# Altium integrated library Microchip Power Management MOSFET Driver.IntLib: 509 symbols (part 11 of 13)
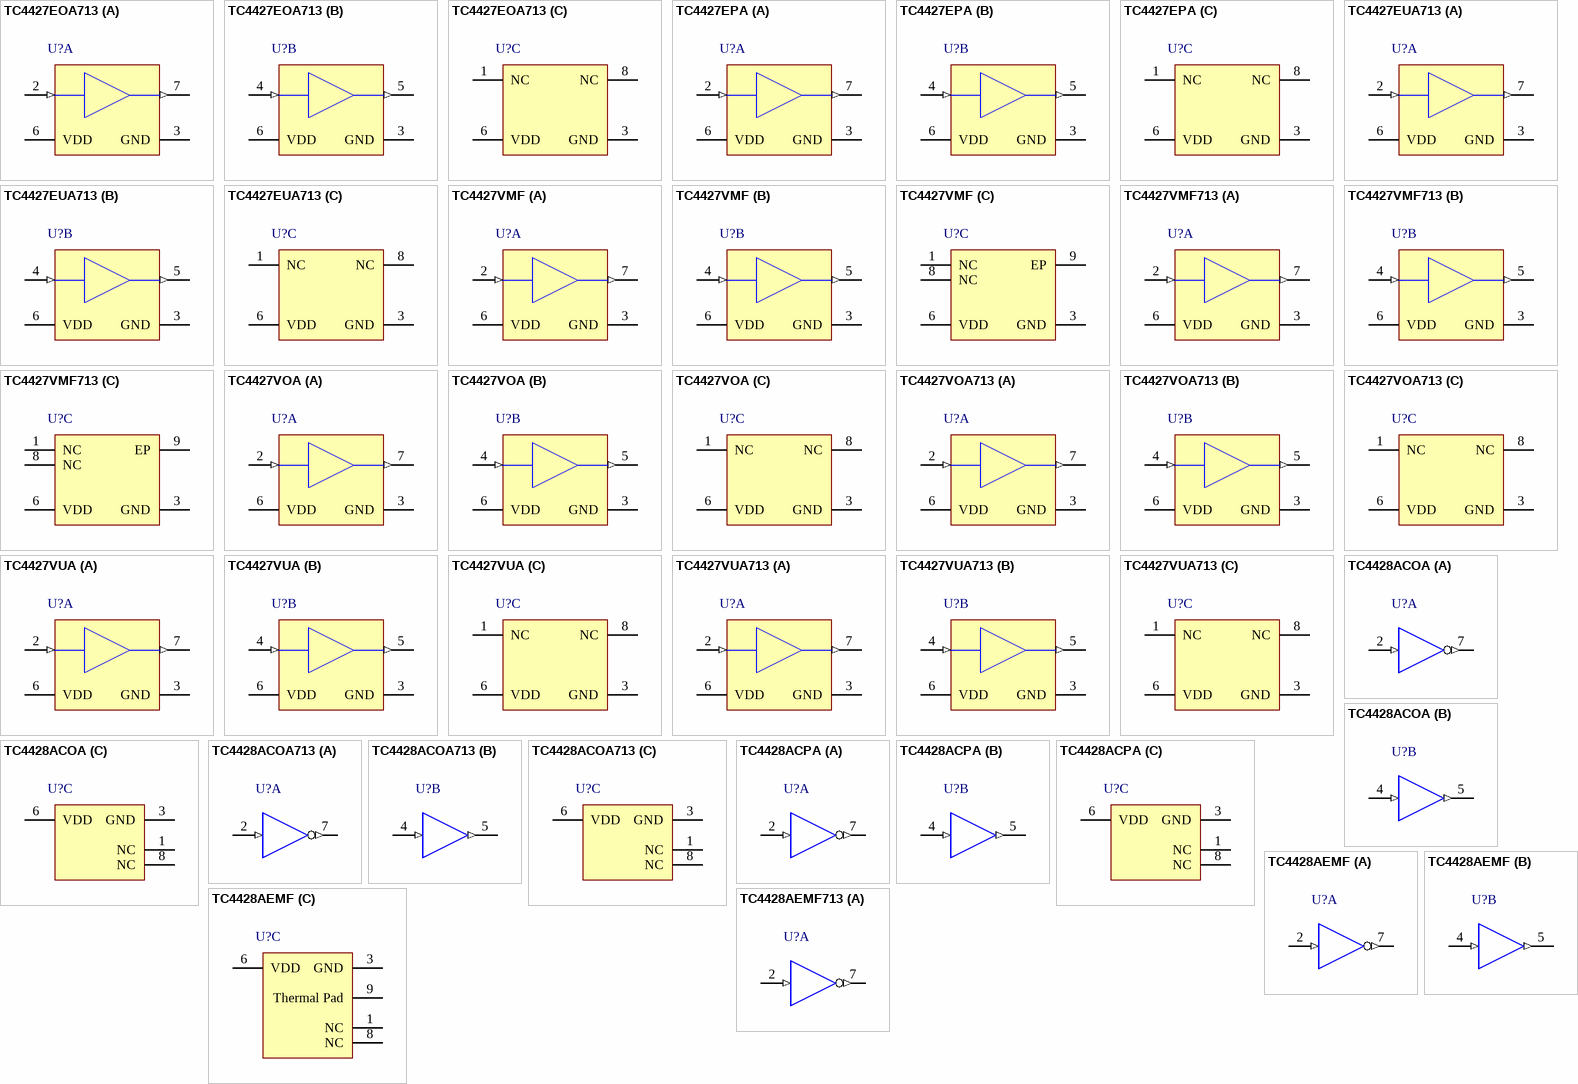
[diagram p36: symbols TC4427EOA713 to TC4428AEMF713]

## TC4427EPA
designator U?
1.5A Dual High-Speed Power MOSFET Driver, Non-Inverting, Industrial Temperature; Manufacturer: Microchip; PartNumber: TC4427EPA; DatasheetVersion: revD, Jan-2006; PackageVersion: revBB, Aug-2009; PackageReference: PDIP300-PA8; PackageDescription: 8-Lead Plastic Dual In-Line (PA) - 300 mil Body [PDIP]; Supplier 1: Digi-Key; Supplier Part Number 1: TC4427EPA-ND; Supplier 2: Farnell; Supplier Part Number 2: 1651944; Supplier 3: Newark; Supplier Part Number 3: 96K4021; Supplier 4: Mouser; Supplier Part Number 4: 579-TC4427EPA; Mounting Technology: Through Hole; Code_JEDEC: MS-001-BA; ComponentLink1Description: Manufacturer URL; ComponentLink1URL: http://www.microchip.com/; ComponentLink2Description: Datasheet; ComponentLink2URL: http://ww1.microchip.com/downloads/en/DeviceDoc/21422D.pdf; ComponentLink3Description: Package Specification; ComponentLink3URL: http://www.microchip.com/stellent/groups/techpub_sg/documents/packagingspec/en012702.pdf
footprint PDIP300-PA8 (DIP, 8-Leads, Row Spacing 7.62mm, Pitch 2.54mm, Body 9.5x6.6mm)
pins on every part: 3 GND (power), 6 VDD (power)
part A pins: 2 INA (in), 7 OUTA (out)
part B pins: 4 INB (in), 5 OUTB (out)
part C pins: 1 NC, 8 NC

## TC4427EUA713
designator U?
1.5A Dual High-Speed Power MOSFET Driver, Non-Inverting, Industrial Temperature, Tape and Reel; Manufacturer: Microchip; PartNumber: TC4427EUA713; DatasheetVersion: revD, Jan-2006; PackageVersion: revBB, Aug-2009; PackageReference: MSOP-UA8; PackageDescription: 8-Lead Plastic Micro Small Outline Package (UA) [MSOP]; Supplier 1: Digi-Key; Supplier Part Number 1: TC4427EUA713-ND; Supplier 2: Mouser; Supplier Part Number 2: 579-TC4427EUA713; Mounting Technology: Surface Mount; Code_JEDEC: MO-187-AA; ComponentLink1Description: Manufacturer URL; ComponentLink1URL: http://www.microchip.com/; ComponentLink2Description: Datasheet; ComponentLink2URL: http://ww1.microchip.com/downloads/en/DeviceDoc/21422D.pdf; ComponentLink3Description: Package Specification; ComponentLink3URL: http://www.microchip.com/stellent/groups/techpub_sg/documents/packagingspec/en012702.pdf
footprint MSOP-UA8_N (TSOP, 8-Leads, Body 3x3mm, Pitch 0.65mm, IPC Medium Density)
footprint MSOP-UA8_L (TSOP, 8-Leads, Body 3x3mm, Pitch 0.65mm, IPC High Density)
footprint MSOP-UA8_M (TSOP, 8-Leads, Body 3x3mm, Pitch 0.65mm, IPC Low Density)
pins on every part: 3 GND (power), 6 VDD (power)
part A pins: 2 INA (in), 7 OUTA (out)
part B pins: 4 INB (in), 5 OUTB (out)
part C pins: 1 NC, 8 NC

## TC4427VMF
designator U?
1.5A Dual High-Speed Power MOSFET Driver, Non-Inverting, Extended Temperature; Manufacturer: Microchip; PartNumber: TC4427VMF; DatasheetVersion: revD, Jan-2006; PackageVersion: revBB, Aug-2009; PackageReference: DFN-MF8; PackageDescription: 8-Lead Plastic Dual Flat, No Lead Package (MF) - 3x3x0.9mm Body [DFN]; Supplier 1: Digi-Key; Supplier Part Number 1: TC4427VMF-ND; Supplier 2: Mouser; Supplier Part Number 2: 579-TC4427VMF; Mounting Technology: Surface Mount; ComponentLink1Description: Manufacturer URL; ComponentLink1URL: http://www.microchip.com/; ComponentLink2Description: Datasheet; ComponentLink2URL: http://ww1.microchip.com/downloads/en/DeviceDoc/21422D.pdf; ComponentLink3Description: Package Specification; ComponentLink3URL: http://www.microchip.com/stellent/groups/techpub_sg/documents/packagingspec/en012702.pdf
footprint DFN-MF8 (SON, 8-Leads, Body 3x3mm, Pitch 0.65mm, Microchip Recommended)
pins on every part: 3 GND (power), 6 VDD (power)
part A pins: 2 INA (in), 7 OUTA (out)
part B pins: 4 INB (in), 5 OUTB (out)
part C pins: 1 NC, 8 NC, 9 EP

## TC4427VMF713
designator U?
1.5A Dual High-Speed Power MOSFET Driver, Non-Inverting, Extended Temperature, Tape and Reel; Manufacturer: Microchip; PartNumber: TC4427VMF713; DatasheetVersion: revD, Jan-2006; PackageVersion: revBB, Aug-2009; PackageReference: DFN-MF8; PackageDescription: 8-Lead Plastic Dual Flat, No Lead Package (MF) - 3x3x0.9mm Body [DFN]; Supplier 1: Digi-Key; Supplier Part Number 1: TC4427VMF713-ND; Supplier 2: Mouser; Supplier Part Number 2: 579-TC4427VMF713; Mounting Technology: Surface Mount; ComponentLink1Description: Manufacturer URL; ComponentLink1URL: http://www.microchip.com/; ComponentLink2Description: Datasheet; ComponentLink2URL: http://ww1.microchip.com/downloads/en/DeviceDoc/21422D.pdf; ComponentLink3Description: Package Specification; ComponentLink3URL: http://www.microchip.com/stellent/groups/techpub_sg/documents/packagingspec/en012702.pdf
footprint DFN-MF8 (SON, 8-Leads, Body 3x3mm, Pitch 0.65mm, Microchip Recommended)
pins on every part: 3 GND (power), 6 VDD (power)
part A pins: 2 INA (in), 7 OUTA (out)
part B pins: 4 INB (in), 5 OUTB (out)
part C pins: 1 NC, 8 NC, 9 EP

## TC4427VOA
designator U?
1.5A Dual High-Speed Power MOSFET Driver, Non-Inverting, Extended Temperature; Manufacturer: Microchip; PartNumber: TC4427VOA; DatasheetVersion: revD, Jan-2006; PackageVersion: revBB, Aug-2009; PackageReference: SOIC-OA8; PackageDescription: 8-Lead Plastic Small Outline (OA) - Narrow, 3.90mm Body [SOIC]; Supplier 1: Digi-Key; Supplier Part Number 1: TC4427VOA-ND; Supplier 2: Mouser; Supplier Part Number 2: 579-TC4427VOA; Mounting Technology: Surface Mount; Code_IPC: SOIC127P600-8; ComponentLink1Description: Manufacturer URL; ComponentLink1URL: http://www.microchip.com/; ComponentLink2Description: Datasheet; ComponentLink2URL: http://ww1.microchip.com/downloads/en/DeviceDoc/21422D.pdf; ComponentLink3Description: Package Specification; ComponentLink3URL: http://www.microchip.com/stellent/groups/techpub_sg/documents/packagingspec/en012702.pdf
footprint SOIC-OA8_N (SOIC, 8-Leads, Body 4.9x3.9mm, Pitch 1.27mm, IPC Medium Density)
footprint SOIC-OA8_L (SOIC, 8-Leads, Body 4.9x3.9mm, Pitch 1.27mm, IPC High Density)
footprint SOIC-OA8_M (SOIC, 8-Leads, Body 4.9x3.9mm, Pitch 1.27mm, IPC Low Density)
pins on every part: 3 GND (power), 6 VDD (power)
part A pins: 2 INA (in), 7 OUTA (out)
part B pins: 4 INB (in), 5 OUTB (out)
part C pins: 1 NC, 8 NC

## TC4427VOA713
designator U?
1.5A Dual High-Speed Power MOSFET Driver, Non-Inverting, Extended Temperature, Tape and Reel; Manufacturer: Microchip; PartNumber: TC4427VOA713; DatasheetVersion: revD, Jan-2006; PackageVersion: revBB, Aug-2009; PackageReference: SOIC-OA8; PackageDescription: 8-Lead Plastic Small Outline (OA) - Narrow, 3.90mm Body [SOIC]; Supplier 1: Digi-Key; Supplier Part Number 1: TC4427VOA713-ND; Supplier 2: Newark; Supplier Part Number 2: 68H9558; Supplier 3: Mouser; Supplier Part Number 3: 579-TC4427VOA713; Mounting Technology: Surface Mount; Code_IPC: SOIC127P600-8; ComponentLink1Description: Manufacturer URL; ComponentLink1URL: http://www.microchip.com/; ComponentLink2Description: Datasheet; ComponentLink2URL: http://ww1.microchip.com/downloads/en/DeviceDoc/21422D.pdf; ComponentLink3Description: Package Specification; ComponentLink3URL: http://www.microchip.com/stellent/groups/techpub_sg/documents/packagingspec/en012702.pdf
footprint SOIC-OA8_N (SOIC, 8-Leads, Body 4.9x3.9mm, Pitch 1.27mm, IPC Medium Density)
footprint SOIC-OA8_L (SOIC, 8-Leads, Body 4.9x3.9mm, Pitch 1.27mm, IPC High Density)
footprint SOIC-OA8_M (SOIC, 8-Leads, Body 4.9x3.9mm, Pitch 1.27mm, IPC Low Density)
pins on every part: 3 GND (power), 6 VDD (power)
part A pins: 2 INA (in), 7 OUTA (out)
part B pins: 4 INB (in), 5 OUTB (out)
part C pins: 1 NC, 8 NC

## TC4427VUA
designator U?
1.5A Dual High-Speed Power MOSFET Driver, Non-Inverting, Extended Temperature; Manufacturer: Microchip; PartNumber: TC4427VUA; DatasheetVersion: revD, Jan-2006; PackageVersion: revBB, Aug-2009; PackageReference: MSOP-UA8; PackageDescription: 8-Lead Plastic Micro Small Outline Package (UA) [MSOP]; Supplier 1: Digi-Key; Supplier Part Number 1: TC4427VUA-ND; Supplier 2: Mouser; Supplier Part Number 2: 579-TC4427VUA; Mounting Technology: Surface Mount; Code_JEDEC: MO-187-AA; ComponentLink1Description: Manufacturer URL; ComponentLink1URL: http://www.microchip.com/; ComponentLink2Description: Datasheet; ComponentLink2URL: http://ww1.microchip.com/downloads/en/DeviceDoc/21422D.pdf; ComponentLink3Description: Package Specification; ComponentLink3URL: http://www.microchip.com/stellent/groups/techpub_sg/documents/packagingspec/en012702.pdf
footprint MSOP-UA8_N (TSOP, 8-Leads, Body 3x3mm, Pitch 0.65mm, IPC Medium Density)
footprint MSOP-UA8_L (TSOP, 8-Leads, Body 3x3mm, Pitch 0.65mm, IPC High Density)
footprint MSOP-UA8_M (TSOP, 8-Leads, Body 3x3mm, Pitch 0.65mm, IPC Low Density)
pins on every part: 3 GND (power), 6 VDD (power)
part A pins: 2 INA (in), 7 OUTA (out)
part B pins: 4 INB (in), 5 OUTB (out)
part C pins: 1 NC, 8 NC

## TC4427VUA713
designator U?
1.5A Dual High-Speed Power MOSFET Driver, Non-Inverting, Extended Temperature, Tape and Reel; Manufacturer: Microchip; PartNumber: TC4427VUA713; DatasheetVersion: revD, Jan-2006; PackageVersion: revBB, Aug-2009; PackageReference: MSOP-UA8; PackageDescription: 8-Lead Plastic Micro Small Outline Package (UA) [MSOP]; Supplier 1: Digi-Key; Supplier Part Number 1: TC4427VUA713-ND; Supplier 2: Mouser; Supplier Part Number 2: 579-TC4427VUA713; Mounting Technology: Surface Mount; Code_JEDEC: MO-187-AA; ComponentLink1Description: Manufacturer URL; ComponentLink1URL: http://www.microchip.com/; ComponentLink2Description: Datasheet; ComponentLink2URL: http://ww1.microchip.com/downloads/en/DeviceDoc/21422D.pdf; ComponentLink3Description: Package Specification; ComponentLink3URL: http://www.microchip.com/stellent/groups/techpub_sg/documents/packagingspec/en012702.pdf
footprint MSOP-UA8_N (TSOP, 8-Leads, Body 3x3mm, Pitch 0.65mm, IPC Medium Density)
footprint MSOP-UA8_L (TSOP, 8-Leads, Body 3x3mm, Pitch 0.65mm, IPC High Density)
footprint MSOP-UA8_M (TSOP, 8-Leads, Body 3x3mm, Pitch 0.65mm, IPC Low Density)
pins on every part: 3 GND (power), 6 VDD (power)
part A pins: 2 INA (in), 7 OUTA (out)
part B pins: 4 INB (in), 5 OUTB (out)
part C pins: 1 NC, 8 NC

## TC4428ACOA
designator U?
1.5A Dual High-Speed Power MOSFET Driver, Complementary, Commercial Temperature; Manufacturer: Microchip; PartNumber: TC4428ACOA; DatasheetVersion: revF, Jan-2006; PackageVersion: revBB, Aug-2009; PackageReference: SOIC-OA8; PackageDescription: 8-Lead Plastic Small Outline (OA) - Narrow, 3.90mm Body [SOIC]; Supplier 1: Digi-Key; Supplier Part Number 1: TC4428ACOA-ND; Supplier 2: Farnell; Supplier Part Number 2: 1332312; Supplier 3: Newark; Supplier Part Number 3: 34M8781; Supplier 4: Mouser; Supplier Part Number 4: 579-TC4428ACOA; Mounting Technology: Surface Mount; Code_IPC: SOIC127P600-8; ComponentLink1Description: Manufacturer URL; ComponentLink1URL: http://www.microchip.com/; ComponentLink2Description: Datasheet; ComponentLink2URL: http://ww1.microchip.com/downloads/en/DeviceDoc/21423F.pdf; ComponentLink3Description: Package Specification; ComponentLink3URL: http://www.microchip.com/stellent/groups/techpub_sg/documents/packagingspec/en012702.pdf
footprint SOIC-OA8_N (SOIC, 8-Leads, Body 4.9x3.9mm, Pitch 1.27mm, IPC Medium Density)
footprint SOIC-OA8_L (SOIC, 8-Leads, Body 4.9x3.9mm, Pitch 1.27mm, IPC High Density)
footprint SOIC-OA8_M (SOIC, 8-Leads, Body 4.9x3.9mm, Pitch 1.27mm, IPC Low Density)
part A pins: 2 INA (in), 7 ~{OUTA} (out)
part B pins: 4 INB (in), 5 OUTB (out)
part C pins: 1 NC, 3 GND (power), 6 VDD (power), 8 NC

## TC4428ACOA713
designator U?
1.5A Dual High-Speed Power MOSFET Driver, Complementary, Commercial Temperature, Tape and Reel; Manufacturer: Microchip; PartNumber: TC4428ACOA713; DatasheetVersion: revD, Jan-2006; PackageVersion: revBB, Aug-2009; PackageReference: SOIC-OA8; PackageDescription: 8-Lead Plastic Small Outline (OA) - Narrow, 3.90mm Body [SOIC]; Supplier 1: Digi-Key; Supplier Part Number 1: TC4428ACOA713-ND; Supplier 2: Mouser; Supplier Part Number 2: 579-TC4428ACOA713; Mounting Technology: Surface Mount; Code_IPC: SOIC127P600-8; ComponentLink1Description: Manufacturer URL; ComponentLink1URL: http://www.microchip.com/; ComponentLink2Description: Datasheet; ComponentLink2URL: http://ww1.microchip.com/downloads/en/DeviceDoc/21422D.pdf; ComponentLink3Description: Package Specification; ComponentLink3URL: http://www.microchip.com/stellent/groups/techpub_sg/documents/packagingspec/en012702.pdf
footprint SOIC-OA8_N (SOIC, 8-Leads, Body 4.9x3.9mm, Pitch 1.27mm, IPC Medium Density)
footprint SOIC-OA8_L (SOIC, 8-Leads, Body 4.9x3.9mm, Pitch 1.27mm, IPC High Density)
footprint SOIC-OA8_M (SOIC, 8-Leads, Body 4.9x3.9mm, Pitch 1.27mm, IPC Low Density)
part A pins: 2 INA (in), 7 ~{OUTA} (out)
part B pins: 4 INB (in), 5 OUTB (out)
part C pins: 1 NC, 3 GND (power), 6 VDD (power), 8 NC

## TC4428ACPA
designator U?
1.5A Dual High-Speed Power MOSFET Driver, Complementary, Commercial Temperature; Manufacturer: Microchip; PartNumber: TC4428ACPA; DatasheetVersion: revF, Jan-2006; PackageVersion: revBB, Aug-2009; PackageReference: PDIP300-PA8; PackageDescription: 8-Lead Plastic Dual In-Line (PA) - 300 mil Body [PDIP]; Supplier 1: Digi-Key; Supplier Part Number 1: TC4428ACPA-ND; Supplier 2: Farnell; Supplier Part Number 2: 1332313; Supplier 3: Newark; Supplier Part Number 3: 34M8782; Supplier 4: Mouser; Supplier Part Number 4: 579-TC4428ACPA; Mounting Technology: Through Hole; Code_JEDEC: MS-001-BA; ComponentLink1Description: Manufacturer URL; ComponentLink1URL: http://www.microchip.com/; ComponentLink2Description: Datasheet; ComponentLink2URL: http://ww1.microchip.com/downloads/en/DeviceDoc/21423F.pdf; ComponentLink3Description: Package Specification; ComponentLink3URL: http://www.microchip.com/stellent/groups/techpub_sg/documents/packagingspec/en012702.pdf
footprint PDIP300-PA8 (DIP, 8-Leads, Row Spacing 7.62mm, Pitch 2.54mm, Body 9.5x6.6mm)
part A pins: 2 INA (in), 7 ~{OUTA} (out)
part B pins: 4 INB (in), 5 OUTB (out)
part C pins: 1 NC, 3 GND (power), 6 VDD (power), 8 NC

## TC4428AEMF
designator U?
1.5A Dual High-Speed Power MOSFET Driver, Complementary, Industrial Temperature; Manufacturer: Microchip; PartNumber: TC4428AEMF; DatasheetVersion: revF, Jan-2006; PackageVersion: revBB, Aug-2009; PackageReference: DFN-MF8; PackageDescription: 8-Lead Plastic Dual Flat, No Lead Package (MF) - 3x3x0.9mm Body [DFN]; Supplier 1: Digi-Key; Supplier Part Number 1: TC4428AEMF-ND; Supplier 2: Mouser; Supplier Part Number 2: 579-TC4428AEMF; Mounting Technology: Surface Mount; ComponentLink1Description: Manufacturer URL; ComponentLink1URL: http://www.microchip.com/; ComponentLink2Description: Datasheet; ComponentLink2URL: http://ww1.microchip.com/downloads/en/DeviceDoc/21423F.pdf; ComponentLink3Description: Package Specification; ComponentLink3URL: http://www.microchip.com/stellent/groups/techpub_sg/documents/packagingspec/en012702.pdf
footprint DFN-MF8 (SON, 8-Leads, Body 3x3mm, Pitch 0.65mm, Microchip Recommended)
part A pins: 2 INA (in), 7 ~{OUTA} (out)
part B pins: 4 INB (in), 5 OUTB (out)
part C pins: 1 NC, 3 GND (power), 6 VDD (power), 8 NC, 9 Thermal Pad

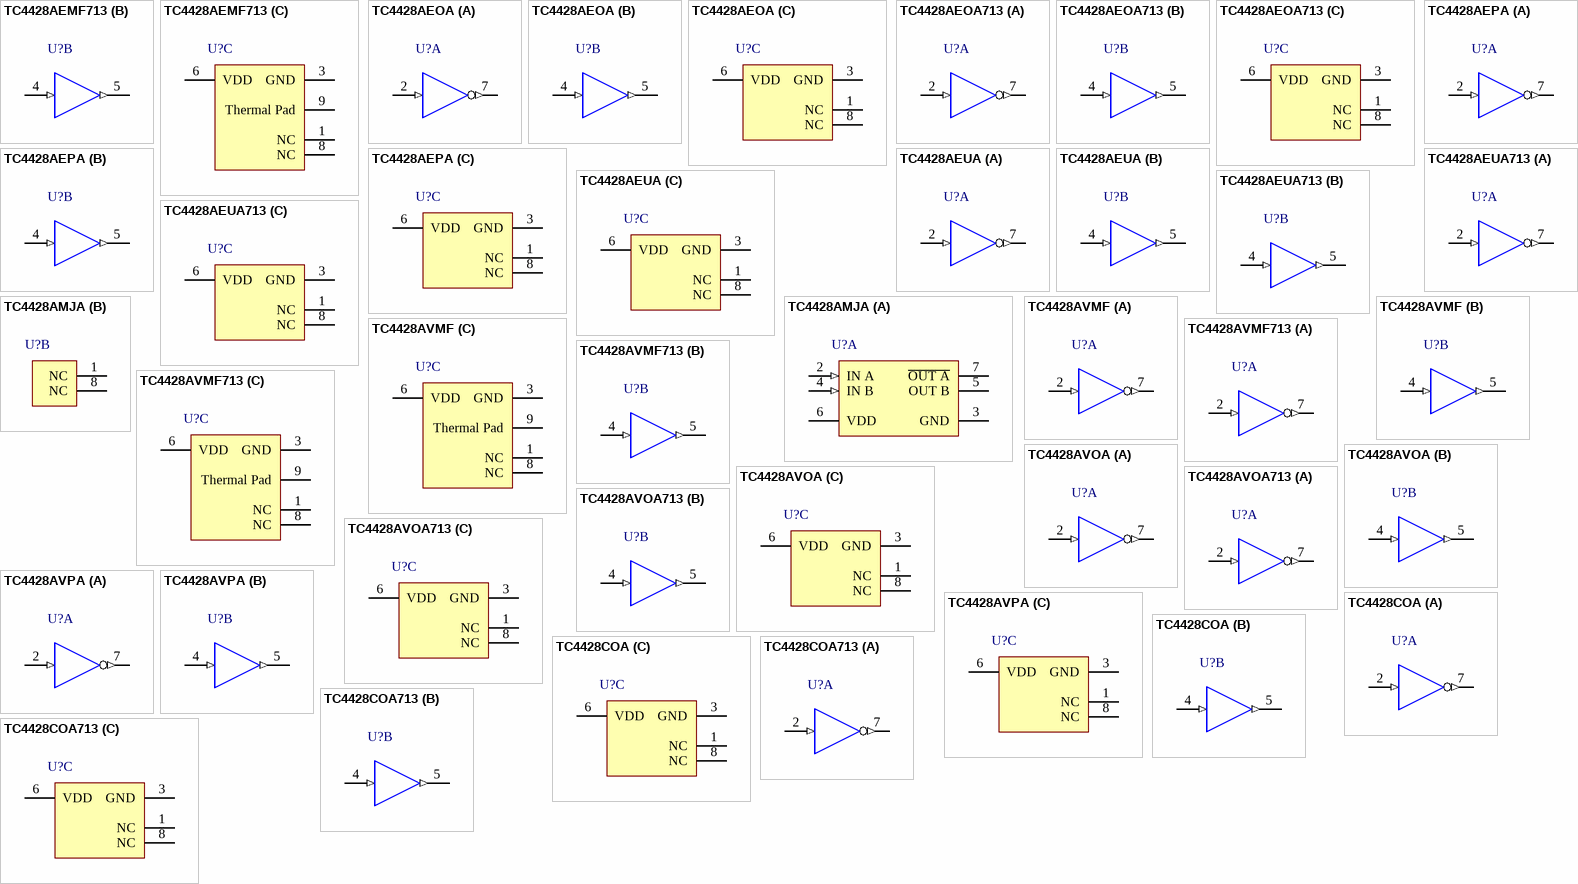
[diagram p21: symbols TC4428AEMF713 to TC4428COA713]

## TC4428AEMF713
designator U?
1.5A Dual High-Speed Power MOSFET Driver, Complementary, Industrial Temperature, Tape and Reel; Manufacturer: Microchip; PartNumber: TC4428AEMF713; DatasheetVersion: revF, Jan-2006; PackageVersion: revBB, Aug-2009; PackageReference: DFN-MF8; PackageDescription: 8-Lead Plastic Dual Flat, No Lead Package (MF) - 3x3x0.9mm Body [DFN]; Supplier 1: Digi-Key; Supplier Part Number 1: TC4428AEMF713-ND; Supplier 2: Mouser; Supplier Part Number 2: 579-TC4428AEMF713; Mounting Technology: Surface Mount; ComponentLink1Description: Manufacturer URL; ComponentLink1URL: http://www.microchip.com/; ComponentLink2Description: Datasheet; ComponentLink2URL: http://ww1.microchip.com/downloads/en/DeviceDoc/21423F.pdf; ComponentLink3Description: Package Specification; ComponentLink3URL: http://www.microchip.com/stellent/groups/techpub_sg/documents/packagingspec/en012702.pdf
footprint DFN-MF8 (SON, 8-Leads, Body 3x3mm, Pitch 0.65mm, Microchip Recommended)
part A pins: 2 INA (in), 7 ~{OUTA} (out)
part B pins: 4 INB (in), 5 OUTB (out)
part C pins: 1 NC, 3 GND (power), 6 VDD (power), 8 NC, 9 Thermal Pad

## TC4428AEOA
designator U?
1.5A Dual High-Speed Power MOSFET Driver, Complementary, Industrial Temperature; Manufacturer: Microchip; PartNumber: TC4428AEOA; DatasheetVersion: revF, Jan-2006; PackageVersion: revBB, Aug-2009; PackageReference: SOIC-OA8; PackageDescription: 8-Lead Plastic Small Outline (OA) - Narrow, 3.90mm Body [SOIC]; Supplier 1: Digi-Key; Supplier Part Number 1: TC4428AEOA-ND; Supplier 2: Newark; Supplier Part Number 2: 92C6118; Supplier 3: Mouser; Supplier Part Number 3: 579-TC4428AEOA; Mounting Technology: Surface Mount; Code_IPC: SOIC127P600-8; ComponentLink1Description: Manufacturer URL; ComponentLink1URL: http://www.microchip.com/; ComponentLink2Description: Datasheet; ComponentLink2URL: http://ww1.microchip.com/downloads/en/DeviceDoc/21423F.pdf; ComponentLink3Description: Package Specification; ComponentLink3URL: http://www.microchip.com/stellent/groups/techpub_sg/documents/packagingspec/en012702.pdf
footprint SOIC-OA8_N (SOIC, 8-Leads, Body 4.9x3.9mm, Pitch 1.27mm, IPC Medium Density)
footprint SOIC-OA8_L (SOIC, 8-Leads, Body 4.9x3.9mm, Pitch 1.27mm, IPC High Density)
footprint SOIC-OA8_M (SOIC, 8-Leads, Body 4.9x3.9mm, Pitch 1.27mm, IPC Low Density)
part A pins: 2 INA (in), 7 ~{OUTA} (out)
part B pins: 4 INB (in), 5 OUTB (out)
part C pins: 1 NC, 3 GND (power), 6 VDD (power), 8 NC

## TC4428AEOA713
designator U?
1.5A Dual High-Speed Power MOSFET Driver, Complementary, Industrial Temperature, Tape and Reel; Manufacturer: Microchip; PartNumber: TC4428AEOA713; DatasheetVersion: revD, Jan-2006; PackageVersion: revBB, Aug-2009; PackageReference: SOIC-OA8; PackageDescription: 8-Lead Plastic Small Outline (OA) - Narrow, 3.90mm Body [SOIC]; Supplier 1: Digi-Key; Supplier Part Number 1: TC4428AEOA713-ND; Supplier 2: Mouser; Supplier Part Number 2: 579-TC4428AEOA713; Mounting Technology: Surface Mount; Code_IPC: SOIC127P600-8; ComponentLink1Description: Manufacturer URL; ComponentLink1URL: http://www.microchip.com/; ComponentLink2Description: Datasheet; ComponentLink2URL: http://ww1.microchip.com/downloads/en/DeviceDoc/21422D.pdf; ComponentLink3Description: Package Specification; ComponentLink3URL: http://www.microchip.com/stellent/groups/techpub_sg/documents/packagingspec/en012702.pdf
footprint SOIC-OA8_N (SOIC, 8-Leads, Body 4.9x3.9mm, Pitch 1.27mm, IPC Medium Density)
footprint SOIC-OA8_L (SOIC, 8-Leads, Body 4.9x3.9mm, Pitch 1.27mm, IPC High Density)
footprint SOIC-OA8_M (SOIC, 8-Leads, Body 4.9x3.9mm, Pitch 1.27mm, IPC Low Density)
part A pins: 2 INA (in), 7 ~{OUTA} (out)
part B pins: 4 INB (in), 5 OUTB (out)
part C pins: 1 NC, 3 GND (power), 6 VDD (power), 8 NC

## TC4428AEPA
designator U?
1.5A Dual High-Speed Power MOSFET Driver, Complementary, Industrial Temperature; Manufacturer: Microchip; PartNumber: TC4428AEPA; DatasheetVersion: revF, Jan-2006; PackageVersion: revBB, Aug-2009; PackageReference: PDIP300-PA8; PackageDescription: 8-Lead Plastic Dual In-Line (PA) - 300 mil Body [PDIP]; Supplier 1: Digi-Key; Supplier Part Number 1: TC4428AEPA-ND; Supplier 2: Farnell; Supplier Part Number 2: 1852207; Supplier 3: Newark; Supplier Part Number 3: 92C6120; Supplier 4: Mouser; Supplier Part Number 4: 579-TC4428AEPA; Mounting Technology: Through Hole; Code_JEDEC: MS-001-BA; ComponentLink1Description: Manufacturer URL; ComponentLink1URL: http://www.microchip.com/; ComponentLink2Description: Datasheet; ComponentLink2URL: http://ww1.microchip.com/downloads/en/DeviceDoc/21423F.pdf; ComponentLink3Description: Package Specification; ComponentLink3URL: http://www.microchip.com/stellent/groups/techpub_sg/documents/packagingspec/en012702.pdf
footprint PDIP300-PA8 (DIP, 8-Leads, Row Spacing 7.62mm, Pitch 2.54mm, Body 9.5x6.6mm)
part A pins: 2 INA (in), 7 ~{OUTA} (out)
part B pins: 4 INB (in), 5 OUTB (out)
part C pins: 1 NC, 3 GND (power), 6 VDD (power), 8 NC

## TC4428AEUA
designator U?
1.5A Dual High-Speed Power MOSFET Driver, Complementary, Industrial Temperature; Manufacturer: Microchip; PartNumber: TC4428AEUA; DatasheetVersion: revF, Jan-2006; PackageVersion: revBB, Aug-2009; PackageReference: MSOP-UA8; PackageDescription: 8-Lead Plastic Micro Small Outline Package (UA) [MSOP]; Supplier 1: Digi-Key; Supplier Part Number 1: TC4428AEUA-ND; Supplier 2: Newark; Supplier Part Number 2: 89H1689; Supplier 3: Mouser; Supplier Part Number 3: 579-TC4428AEUA; Mounting Technology: Surface Mount; Code_JEDEC: MO-187-AA; ComponentLink1Description: Manufacturer URL; ComponentLink1URL: http://www.microchip.com/; ComponentLink2Description: Datasheet; ComponentLink2URL: http://ww1.microchip.com/downloads/en/DeviceDoc/21423F.pdf; ComponentLink3Description: Package Specification; ComponentLink3URL: http://www.microchip.com/stellent/groups/techpub_sg/documents/packagingspec/en012702.pdf
footprint MSOP-UA8_N (TSOP, 8-Leads, Body 3x3mm, Pitch 0.65mm, IPC Medium Density)
footprint MSOP-UA8_L (TSOP, 8-Leads, Body 3x3mm, Pitch 0.65mm, IPC High Density)
footprint MSOP-UA8_M (TSOP, 8-Leads, Body 3x3mm, Pitch 0.65mm, IPC Low Density)
part A pins: 2 INA (in), 7 ~{OUTA} (out)
part B pins: 4 INB (in), 5 OUTB (out)
part C pins: 1 NC, 3 GND (power), 6 VDD (power), 8 NC

## TC4428AEUA713
designator U?
1.5A Dual High-Speed Power MOSFET Driver, Complementary, Industrial Temperature, Tape and Reel; Manufacturer: Microchip; PartNumber: TC4428AEUA713; DatasheetVersion: revF, Jan-2006; PackageVersion: revBB, Aug-2009; PackageReference: MSOP-UA8; PackageDescription: 8-Lead Plastic Micro Small Outline Package (UA) [MSOP]; Supplier 1: Digi-Key; Supplier Part Number 1: TC4428AEUA713-ND; Supplier 2: Mouser; Supplier Part Number 2: 579-TC4428AEUA713; Mounting Technology: Surface Mount; Code_JEDEC: MO-187-AA; ComponentLink1Description: Manufacturer URL; ComponentLink1URL: http://www.microchip.com/; ComponentLink2Description: Datasheet; ComponentLink2URL: http://ww1.microchip.com/downloads/en/DeviceDoc/21423F.pdf; ComponentLink3Description: Package Specification; ComponentLink3URL: http://www.microchip.com/stellent/groups/techpub_sg/documents/packagingspec/en012702.pdf
footprint MSOP-UA8_N (TSOP, 8-Leads, Body 3x3mm, Pitch 0.65mm, IPC Medium Density)
footprint MSOP-UA8_L (TSOP, 8-Leads, Body 3x3mm, Pitch 0.65mm, IPC High Density)
footprint MSOP-UA8_M (TSOP, 8-Leads, Body 3x3mm, Pitch 0.65mm, IPC Low Density)
part A pins: 2 INA (in), 7 ~{OUTA} (out)
part B pins: 4 INB (in), 5 OUTB (out)
part C pins: 1 NC, 3 GND (power), 6 VDD (power), 8 NC

## TC4428AMJA
designator U?
1.5 A Dual High-Speed Power MOSFET Driver, Max Supply Voltage 18 V, 8-pin PDIP (JA8), Tube; Manufacturer: Microchip; PartNumber: TC4428AMJA; DatasheetVersion: Rev. A; PackageVersion: C04-010; PackageReference: PDIP-JA8; PackageDescription: 8-Lead Ceramic Dual In-Line, 9.78 x 6.73 mm Body, 2.54 mm Pitch; Supplier 1: Digi-Key; Supplier Part Number 1: TC4428AMJA-ND; Supplier 2: Mouser; Supplier Part Number 2: 579-TC4428AMJA; Mounting Technology: Through Hole; Code_JEDEC: MS-030; ComponentLink1Description: Manufacturer URL; ComponentLink1URL: http://www.microchip.com; ComponentLink2Description: Datasheet; ComponentLink2URL: http://ww1.microchip.com/downloads/en/DeviceDoc/21939a.pdf; ComponentLink3Description: Package Specification; ComponentLink3URL: http://ww1.microchip.com/downloads/en/DeviceDoc/21934a.pdf; ComponentLink4Description: Product URL; ComponentLink4URL: http://www.microchip.com/TC4428
footprint MCHP-PDIP-JA8 (DIP, 8-Leads, Body 9.78x6.73mm, Pitch 2.54mm)
part A pins: 2 IN A (in) "Input A", 3 GND (power) "Ground", 4 IN B (in) "Input B", 5 OUT B (power) "Output B", 6 VDD (power) "Supply input", 7 ~{OUT A} (power) "Output A"
part B pins: 1 NC "No connection", 8 NC "No connection"

## TC4428AVMF
designator U?
1.5A Dual High-Speed Power MOSFET Driver, Complementary, Extended Temperature; Manufacturer: Microchip; PartNumber: TC4428AVMF; DatasheetVersion: revF, Jan-2006; PackageVersion: revBB, Aug-2009; PackageReference: DFN-MF8; PackageDescription: 8-Lead Plastic Dual Flat, No Lead Package (MF) - 3x3x0.9mm Body [DFN]; Supplier 1: Digi-Key; Supplier Part Number 1: TC4428AVMF-ND; Supplier 2: Mouser; Supplier Part Number 2: 579-TC4428AVMF; Mounting Technology: Surface Mount; ComponentLink1Description: Manufacturer URL; ComponentLink1URL: http://www.microchip.com/; ComponentLink2Description: Datasheet; ComponentLink2URL: http://ww1.microchip.com/downloads/en/DeviceDoc/21423F.pdf; ComponentLink3Description: Package Specification; ComponentLink3URL: http://www.microchip.com/stellent/groups/techpub_sg/documents/packagingspec/en012702.pdf
footprint DFN-MF8 (SON, 8-Leads, Body 3x3mm, Pitch 0.65mm, Microchip Recommended)
part A pins: 2 INA (in), 7 ~{OUTA} (out)
part B pins: 4 INB (in), 5 OUTB (out)
part C pins: 1 NC, 3 GND (power), 6 VDD (power), 8 NC, 9 Thermal Pad

## TC4428AVMF713
designator U?
1.5A Dual High-Speed Power MOSFET Driver, Complementary, Extended Temperature, Tape and Reel; Manufacturer: Microchip; PartNumber: TC4428AVMF713; DatasheetVersion: revF, Jan-2006; PackageVersion: revBB, Aug-2009; PackageReference: DFN-MF8; PackageDescription: 8-Lead Plastic Dual Flat, No Lead Package (MF) - 3x3x0.9mm Body [DFN]; Supplier 1: Digi-Key; Supplier Part Number 1: TC4428AVMF713-ND; Supplier 2: Mouser; Supplier Part Number 2: 579-TC4428AVMF713; Mounting Technology: Surface Mount; ComponentLink1Description: Manufacturer URL; ComponentLink1URL: http://www.microchip.com/; ComponentLink2Description: Datasheet; ComponentLink2URL: http://ww1.microchip.com/downloads/en/DeviceDoc/21423F.pdf; ComponentLink3Description: Package Specification; ComponentLink3URL: http://www.microchip.com/stellent/groups/techpub_sg/documents/packagingspec/en012702.pdf
footprint DFN-MF8 (SON, 8-Leads, Body 3x3mm, Pitch 0.65mm, Microchip Recommended)
part A pins: 2 INA (in), 7 ~{OUTA} (out)
part B pins: 4 INB (in), 5 OUTB (out)
part C pins: 1 NC, 3 GND (power), 6 VDD (power), 8 NC, 9 Thermal Pad

## TC4428AVOA
designator U?
1.5A Dual High-Speed Power MOSFET Driver, Complementary, Extended Temperature; Manufacturer: Microchip; PartNumber: TC4428AVOA; DatasheetVersion: revF, Jan-2006; PackageVersion: revBB, Aug-2009; PackageReference: SOIC-OA8; PackageDescription: 8-Lead Plastic Small Outline (OA) - Narrow, 3.90mm Body [SOIC]; Supplier 1: Digi-Key; Supplier Part Number 1: TC4428AVOA-ND; Supplier 2: Mouser; Supplier Part Number 2: 579-TC4428AVOA; Mounting Technology: Surface Mount; Code_IPC: SOIC127P600-8; ComponentLink1Description: Manufacturer URL; ComponentLink1URL: http://www.microchip.com/; ComponentLink2Description: Datasheet; ComponentLink2URL: http://ww1.microchip.com/downloads/en/DeviceDoc/21423F.pdf; ComponentLink3Description: Package Specification; ComponentLink3URL: http://www.microchip.com/stellent/groups/techpub_sg/documents/packagingspec/en012702.pdf
footprint SOIC-OA8_N (SOIC, 8-Leads, Body 4.9x3.9mm, Pitch 1.27mm, IPC Medium Density)
footprint SOIC-OA8_L (SOIC, 8-Leads, Body 4.9x3.9mm, Pitch 1.27mm, IPC High Density)
footprint SOIC-OA8_M (SOIC, 8-Leads, Body 4.9x3.9mm, Pitch 1.27mm, IPC Low Density)
part A pins: 2 INA (in), 7 ~{OUTA} (out)
part B pins: 4 INB (in), 5 OUTB (out)
part C pins: 1 NC, 3 GND (power), 6 VDD (power), 8 NC

## TC4428AVOA713
designator U?
1.5A Dual High-Speed Power MOSFET Driver, Complementary, Extended Temperature, Tape and Reel; Manufacturer: Microchip; PartNumber: TC4428AVOA713; DatasheetVersion: revF, Jan-2006; PackageVersion: revBB, Aug-2009; PackageReference: SOIC-OA8; PackageDescription: 8-Lead Plastic Small Outline (OA) - Narrow, 3.90mm Body [SOIC]; Supplier 1: Digi-Key; Supplier Part Number 1: TC4428AVOA713-ND; Supplier 2: Mouser; Supplier Part Number 2: 579-TC4428AVOA713; Mounting Technology: Surface Mount; Code_IPC: SOIC127P600-8; ComponentLink1Description: Manufacturer URL; ComponentLink1URL: http://www.microchip.com/; ComponentLink2Description: Datasheet; ComponentLink2URL: http://ww1.microchip.com/downloads/en/DeviceDoc/21423F.pdf; ComponentLink3Description: Package Specification; ComponentLink3URL: http://www.microchip.com/stellent/groups/techpub_sg/documents/packagingspec/en012702.pdf
footprint SOIC-OA8_N (SOIC, 8-Leads, Body 4.9x3.9mm, Pitch 1.27mm, IPC Medium Density)
footprint SOIC-OA8_L (SOIC, 8-Leads, Body 4.9x3.9mm, Pitch 1.27mm, IPC High Density)
footprint SOIC-OA8_M (SOIC, 8-Leads, Body 4.9x3.9mm, Pitch 1.27mm, IPC Low Density)
part A pins: 2 INA (in), 7 ~{OUTA} (out)
part B pins: 4 INB (in), 5 OUTB (out)
part C pins: 1 NC, 3 GND (power), 6 VDD (power), 8 NC

## TC4428AVPA
designator U?
1.5A Dual High-Speed Power MOSFET Driver, Complementary, Extended Temperature; Manufacturer: Microchip; PartNumber: TC4428AVPA; DatasheetVersion: revF, Jan-2006; PackageVersion: revBB, Aug-2009; PackageReference: PDIP300-PA8; PackageDescription: 8-Lead Plastic Dual In-Line (PA) - 300 mil Body [PDIP]; Supplier 1: Digi-Key; Supplier Part Number 1: TC4428AVPA-ND; Supplier 2: Mouser; Supplier Part Number 2: 579-TC4428AVPA; Mounting Technology: Through Hole; Code_JEDEC: MS-001-BA; ComponentLink1Description: Manufacturer URL; ComponentLink1URL: http://www.microchip.com/; ComponentLink2Description: Datasheet; ComponentLink2URL: http://ww1.microchip.com/downloads/en/DeviceDoc/21423F.pdf; ComponentLink3Description: Package Specification; ComponentLink3URL: http://www.microchip.com/stellent/groups/techpub_sg/documents/packagingspec/en012702.pdf
footprint PDIP300-PA8 (DIP, 8-Leads, Row Spacing 7.62mm, Pitch 2.54mm, Body 9.5x6.6mm)
part A pins: 2 INA (in), 7 ~{OUTA} (out)
part B pins: 4 INB (in), 5 OUTB (out)
part C pins: 1 NC, 3 GND (power), 6 VDD (power), 8 NC

## TC4428COA
designator U?
1.5A Dual High-Speed Power MOSFET Driver, Complementary, Commercial Temperature; Manufacturer: Microchip; PartNumber: TC4428COA; DatasheetVersion: revD, Jan-2006; PackageVersion: revBB, Aug-2009; PackageReference: SOIC-OA8; PackageDescription: 8-Lead Plastic Small Outline (OA) - Narrow, 3.90mm Body [SOIC]; Supplier 1: Digi-Key; Supplier Part Number 1: TC4428COA-ND; Supplier 2: Farnell; Supplier Part Number 2: 1467706; Supplier 3: Newark; Supplier Part Number 3: 69K7653; Supplier 4: Mouser; Supplier Part Number 4: 579-TC4428COA; Mounting Technology: Surface Mount; Code_IPC: SOIC127P600-8; ComponentLink1Description: Manufacturer URL; ComponentLink1URL: http://www.microchip.com/; ComponentLink2Description: Datasheet; ComponentLink2URL: http://ww1.microchip.com/downloads/en/DeviceDoc/21422D.pdf; ComponentLink3Description: Package Specification; ComponentLink3URL: http://www.microchip.com/stellent/groups/techpub_sg/documents/packagingspec/en012702.pdf
footprint SOIC-OA8_N (SOIC, 8-Leads, Body 4.9x3.9mm, Pitch 1.27mm, IPC Medium Density)
footprint SOIC-OA8_L (SOIC, 8-Leads, Body 4.9x3.9mm, Pitch 1.27mm, IPC High Density)
footprint SOIC-OA8_M (SOIC, 8-Leads, Body 4.9x3.9mm, Pitch 1.27mm, IPC Low Density)
part A pins: 2 INA (in), 7 ~{OUTA} (out)
part B pins: 4 INB (in), 5 OUTB (out)
part C pins: 1 NC, 3 GND (power), 6 VDD (power), 8 NC

## TC4428COA713
designator U?
1.5A Dual High-Speed Power MOSFET Driver, Complementary, Commercial Temperature, Tape and Reel; Manufacturer: Microchip; PartNumber: TC4428COA713; DatasheetVersion: revD, Jan-2006; PackageVersion: revBB, Aug-2009; PackageReference: SOIC-OA8; PackageDescription: 8-Lead Plastic Small Outline (OA) - Narrow, 3.90mm Body [SOIC]; Supplier 1: Digi-Key; Supplier Part Number 1: TC4428COA713TR-ND; Supplier 2: Mouser; Supplier Part Number 2: 579-TC4428COA713; Mounting Technology: Surface Mount; Code_IPC: SOIC127P600-8; ComponentLink1Description: Manufacturer URL; ComponentLink1URL: http://www.microchip.com/; ComponentLink2Description: Datasheet; ComponentLink2URL: http://ww1.microchip.com/downloads/en/DeviceDoc/21422D.pdf; ComponentLink3Description: Package Specification; ComponentLink3URL: http://www.microchip.com/stellent/groups/techpub_sg/documents/packagingspec/en012702.pdf
footprint SOIC-OA8_N (SOIC, 8-Leads, Body 4.9x3.9mm, Pitch 1.27mm, IPC Medium Density)
footprint SOIC-OA8_L (SOIC, 8-Leads, Body 4.9x3.9mm, Pitch 1.27mm, IPC High Density)
footprint SOIC-OA8_M (SOIC, 8-Leads, Body 4.9x3.9mm, Pitch 1.27mm, IPC Low Density)
part A pins: 2 INA (in), 7 ~{OUTA} (out)
part B pins: 4 INB (in), 5 OUTB (out)
part C pins: 1 NC, 3 GND (power), 6 VDD (power), 8 NC

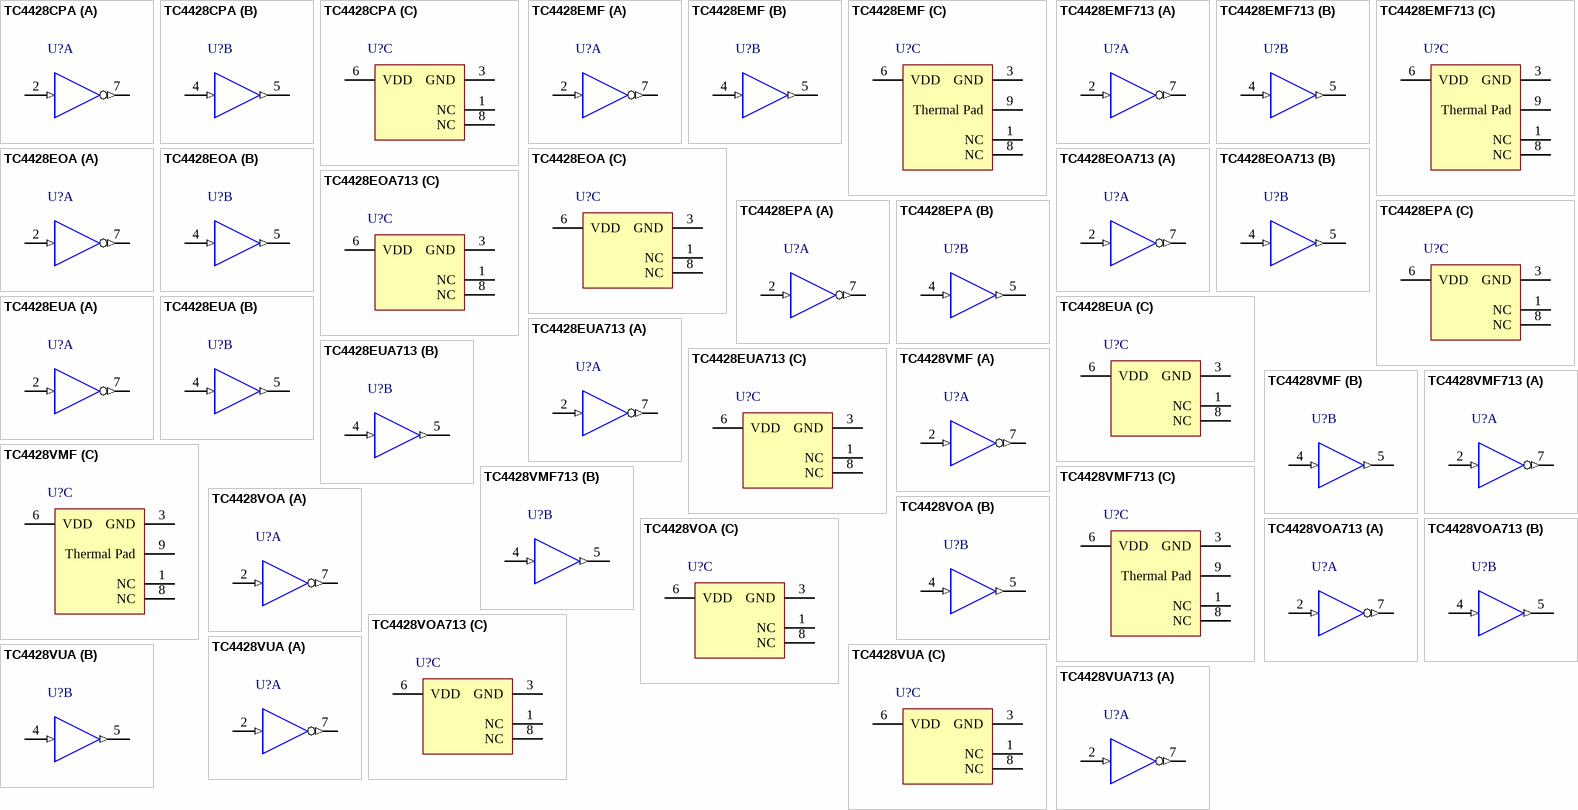
[diagram p22: symbols TC4428CPA to TC4428VUA713]

## TC4428CPA
designator U?
1.5A Dual High-Speed Power MOSFET Driver, Complementary, Commercial Temperature; Manufacturer: Microchip; PartNumber: TC4428CPA; DatasheetVersion: revD, Jan-2006; PackageVersion: revBB, Aug-2009; PackageReference: PDIP300-PA8; PackageDescription: 8-Lead Plastic Dual In-Line (PA) - 300 mil Body [PDIP]; Supplier 1: Digi-Key; Supplier Part Number 1: TC4428CPA-ND; Supplier 2: Farnell; Supplier Part Number 2: 9762655; Supplier 3: Newark; Supplier Part Number 3: 73K1380; Supplier 4: Mouser; Supplier Part Number 4: 579-TC4428CPA; Mounting Technology: Through Hole; Code_JEDEC: MS-001-BA; ComponentLink1Description: Manufacturer URL; ComponentLink1URL: http://www.microchip.com/; ComponentLink2Description: Datasheet; ComponentLink2URL: http://ww1.microchip.com/downloads/en/DeviceDoc/21422D.pdf; ComponentLink3Description: Package Specification; ComponentLink3URL: http://www.microchip.com/stellent/groups/techpub_sg/documents/packagingspec/en012702.pdf
footprint PDIP300-PA8 (DIP, 8-Leads, Row Spacing 7.62mm, Pitch 2.54mm, Body 9.5x6.6mm)
part A pins: 2 INA (in), 7 ~{OUTA} (out)
part B pins: 4 INB (in), 5 OUTB (out)
part C pins: 1 NC, 3 GND (power), 6 VDD (power), 8 NC

## TC4428EMF
designator U?
1.5A Dual High-Speed Power MOSFET Driver, Complementary, Industrial Temperature; Manufacturer: Microchip; PartNumber: TC4428EMF; DatasheetVersion: revD, Jan-2006; PackageVersion: revBB, Aug-2009; PackageReference: DFN-MF8; PackageDescription: 8-Lead Plastic Dual Flat, No Lead Package (MF) - 3x3x0.9mm Body [DFN]; Supplier 1: Digi-Key; Supplier Part Number 1: TC4428EMF-ND; Supplier 2: Mouser; Supplier Part Number 2: 579-TC4428EMF; Mounting Technology: Surface Mount; ComponentLink1Description: Manufacturer URL; ComponentLink1URL: http://www.microchip.com/; ComponentLink2Description: Datasheet; ComponentLink2URL: http://ww1.microchip.com/downloads/en/DeviceDoc/21422D.pdf; ComponentLink3Description: Package Specification; ComponentLink3URL: http://www.microchip.com/stellent/groups/techpub_sg/documents/packagingspec/en012702.pdf
footprint DFN-MF8 (SON, 8-Leads, Body 3x3mm, Pitch 0.65mm, Microchip Recommended)
part A pins: 2 INA (in), 7 ~{OUTA} (out)
part B pins: 4 INB (in), 5 OUTB (out)
part C pins: 1 NC, 3 GND (power), 6 VDD (power), 8 NC, 9 Thermal Pad

## TC4428EMF713
designator U?
1.5A Dual High-Speed Power MOSFET Driver, Complementary, Industrial Temperature, Tape and Reel; Manufacturer: Microchip; PartNumber: TC4428EMF713; DatasheetVersion: revD, Jan-2006; PackageVersion: revBB, Aug-2009; PackageReference: DFN-MF8; PackageDescription: 8-Lead Plastic Dual Flat, No Lead Package (MF) - 3x3x0.9mm Body [DFN]; Supplier 1: Digi-Key; Supplier Part Number 1: TC4428EMF713-ND; Supplier 2: Mouser; Supplier Part Number 2: 579-TC4428EMF713; Mounting Technology: Surface Mount; ComponentLink1Description: Manufacturer URL; ComponentLink1URL: http://www.microchip.com/; ComponentLink2Description: Datasheet; ComponentLink2URL: http://ww1.microchip.com/downloads/en/DeviceDoc/21422D.pdf; ComponentLink3Description: Package Specification; ComponentLink3URL: http://www.microchip.com/stellent/groups/techpub_sg/documents/packagingspec/en012702.pdf
footprint DFN-MF8 (SON, 8-Leads, Body 3x3mm, Pitch 0.65mm, Microchip Recommended)
part A pins: 2 INA (in), 7 ~{OUTA} (out)
part B pins: 4 INB (in), 5 OUTB (out)
part C pins: 1 NC, 3 GND (power), 6 VDD (power), 8 NC, 9 Thermal Pad

## TC4428EOA
designator U?
1.5A Dual High-Speed Power MOSFET Driver, Complementary, Industrial Temperature; Manufacturer: Microchip; PartNumber: TC4428EOA; DatasheetVersion: revD, Jan-2006; PackageVersion: revBB, Aug-2009; PackageReference: SOIC-OA8; PackageDescription: 8-Lead Plastic Small Outline (OA) - Narrow, 3.90mm Body [SOIC]; Supplier 1: Digi-Key; Supplier Part Number 1: TC4428EOA-ND; Supplier 2: Farnell; Supplier Part Number 2: 1196805; Supplier 3: Newark; Supplier Part Number 3: 75K1578; Supplier 4: Mouser; Supplier Part Number 4: 579-TC4428EOA; Mounting Technology: Surface Mount; Code_IPC: SOIC127P600-8; ComponentLink1Description: Manufacturer URL; ComponentLink1URL: http://www.microchip.com/; ComponentLink2Description: Datasheet; ComponentLink2URL: http://ww1.microchip.com/downloads/en/DeviceDoc/21422D.pdf; ComponentLink3Description: Package Specification; ComponentLink3URL: http://www.microchip.com/stellent/groups/techpub_sg/documents/packagingspec/en012702.pdf
footprint SOIC-OA8_N (SOIC, 8-Leads, Body 4.9x3.9mm, Pitch 1.27mm, IPC Medium Density)
footprint SOIC-OA8_L (SOIC, 8-Leads, Body 4.9x3.9mm, Pitch 1.27mm, IPC High Density)
footprint SOIC-OA8_M (SOIC, 8-Leads, Body 4.9x3.9mm, Pitch 1.27mm, IPC Low Density)
part A pins: 2 INA (in), 7 ~{OUTA} (out)
part B pins: 4 INB (in), 5 OUTB (out)
part C pins: 1 NC, 3 GND (power), 6 VDD (power), 8 NC

## TC4428EOA713
designator U?
1.5A Dual High-Speed Power MOSFET Driver, Complementary, Industrial Temperature, Tape and Reel; Manufacturer: Microchip; PartNumber: TC4428EOA713; DatasheetVersion: revD, Jan-2006; PackageVersion: revBB, Aug-2009; PackageReference: SOIC-OA8; PackageDescription: 8-Lead Plastic Small Outline (OA) - Narrow, 3.90mm Body [SOIC]; Supplier 1: Digi-Key; Supplier Part Number 1: TC4428EOA713-ND; Supplier 2: Mouser; Supplier Part Number 2: 579-TC4428EOA713; Mounting Technology: Surface Mount; Code_IPC: SOIC127P600-8; ComponentLink1Description: Manufacturer URL; ComponentLink1URL: http://www.microchip.com/; ComponentLink2Description: Datasheet; ComponentLink2URL: http://ww1.microchip.com/downloads/en/DeviceDoc/21422D.pdf; ComponentLink3Description: Package Specification; ComponentLink3URL: http://www.microchip.com/stellent/groups/techpub_sg/documents/packagingspec/en012702.pdf
footprint SOIC-OA8_N (SOIC, 8-Leads, Body 4.9x3.9mm, Pitch 1.27mm, IPC Medium Density)
footprint SOIC-OA8_L (SOIC, 8-Leads, Body 4.9x3.9mm, Pitch 1.27mm, IPC High Density)
footprint SOIC-OA8_M (SOIC, 8-Leads, Body 4.9x3.9mm, Pitch 1.27mm, IPC Low Density)
part A pins: 2 INA (in), 7 ~{OUTA} (out)
part B pins: 4 INB (in), 5 OUTB (out)
part C pins: 1 NC, 3 GND (power), 6 VDD (power), 8 NC

## TC4428EPA
designator U?
1.5A Dual High-Speed Power MOSFET Driver, Complementary, Industrial Temperature; Manufacturer: Microchip; PartNumber: TC4428EPA; DatasheetVersion: revD, Jan-2006; PackageVersion: revBB, Aug-2009; PackageReference: PDIP300-PA8; PackageDescription: 8-Lead Plastic Dual In-Line (PA) - 300 mil Body [PDIP]; Supplier 1: Digi-Key; Supplier Part Number 1: TC4428EPA-ND; Supplier 2: Newark; Supplier Part Number 2: 92C6124; Supplier 3: Mouser; Supplier Part Number 3: 579-TC4428EPA; Mounting Technology: Through Hole; Code_JEDEC: MS-001-BA; ComponentLink1Description: Manufacturer URL; ComponentLink1URL: http://www.microchip.com/; ComponentLink2Description: Datasheet; ComponentLink2URL: http://ww1.microchip.com/downloads/en/DeviceDoc/21422D.pdf; ComponentLink3Description: Package Specification; ComponentLink3URL: http://www.microchip.com/stellent/groups/techpub_sg/documents/packagingspec/en012702.pdf
footprint PDIP300-PA8 (DIP, 8-Leads, Row Spacing 7.62mm, Pitch 2.54mm, Body 9.5x6.6mm)
part A pins: 2 INA (in), 7 ~{OUTA} (out)
part B pins: 4 INB (in), 5 OUTB (out)
part C pins: 1 NC, 3 GND (power), 6 VDD (power), 8 NC

## TC4428EUA
designator U?
1.5A Dual High-Speed Power MOSFET Driver, Complementary, Industrial Temperature; Manufacturer: Microchip; PartNumber: TC4428EUA; DatasheetVersion: revD, Jan-2006; PackageVersion: revBB, Aug-2009; PackageReference: MSOP-UA8; PackageDescription: 8-Lead Plastic Micro Small Outline Package (UA) [MSOP]; Supplier 1: Digi-Key; Supplier Part Number 1: TC4428EUA-ND; Supplier 2: Mouser; Supplier Part Number 2: 579-TC4428EUA; Mounting Technology: Surface Mount; Code_JEDEC: MO-187-AA; ComponentLink1Description: Manufacturer URL; ComponentLink1URL: http://www.microchip.com/; ComponentLink2Description: Datasheet; ComponentLink2URL: http://ww1.microchip.com/downloads/en/DeviceDoc/21422D.pdf; ComponentLink3Description: Package Specification; ComponentLink3URL: http://www.microchip.com/stellent/groups/techpub_sg/documents/packagingspec/en012702.pdf
footprint MSOP-UA8_N (TSOP, 8-Leads, Body 3x3mm, Pitch 0.65mm, IPC Medium Density)
footprint MSOP-UA8_L (TSOP, 8-Leads, Body 3x3mm, Pitch 0.65mm, IPC High Density)
footprint MSOP-UA8_M (TSOP, 8-Leads, Body 3x3mm, Pitch 0.65mm, IPC Low Density)
part A pins: 2 INA (in), 7 ~{OUTA} (out)
part B pins: 4 INB (in), 5 OUTB (out)
part C pins: 1 NC, 3 GND (power), 6 VDD (power), 8 NC

## TC4428EUA713
designator U?
1.5A Dual High-Speed Power MOSFET Driver, Complementary, Industrial Temperature, Tape and Reel; Manufacturer: Microchip; PartNumber: TC4428EUA713; DatasheetVersion: revD, Jan-2006; PackageVersion: revBB, Aug-2009; PackageReference: MSOP-UA8; PackageDescription: 8-Lead Plastic Micro Small Outline Package (UA) [MSOP]; Supplier 1: Digi-Key; Supplier Part Number 1: TC4428EUA713-ND; Supplier 2: Mouser; Supplier Part Number 2: 579-TC4428EUA713; Mounting Technology: Surface Mount; Code_JEDEC: MO-187-AA; ComponentLink1Description: Manufacturer URL; ComponentLink1URL: http://www.microchip.com/; ComponentLink2Description: Datasheet; ComponentLink2URL: http://ww1.microchip.com/downloads/en/DeviceDoc/21422D.pdf; ComponentLink3Description: Package Specification; ComponentLink3URL: http://www.microchip.com/stellent/groups/techpub_sg/documents/packagingspec/en012702.pdf
footprint MSOP-UA8_N (TSOP, 8-Leads, Body 3x3mm, Pitch 0.65mm, IPC Medium Density)
footprint MSOP-UA8_L (TSOP, 8-Leads, Body 3x3mm, Pitch 0.65mm, IPC High Density)
footprint MSOP-UA8_M (TSOP, 8-Leads, Body 3x3mm, Pitch 0.65mm, IPC Low Density)
part A pins: 2 INA (in), 7 ~{OUTA} (out)
part B pins: 4 INB (in), 5 OUTB (out)
part C pins: 1 NC, 3 GND (power), 6 VDD (power), 8 NC

## TC4428VMF
designator U?
1.5A Dual High-Speed Power MOSFET Driver, Complementary, Extended Temperature; Manufacturer: Microchip; PartNumber: TC4428VMF; DatasheetVersion: revD, Jan-2006; PackageVersion: revBB, Aug-2009; PackageReference: DFN-MF8; PackageDescription: 8-Lead Plastic Dual Flat, No Lead Package (MF) - 3x3x0.9mm Body [DFN]; Supplier 1: Digi-Key; Supplier Part Number 1: TC4428VMF-ND; Supplier 2: Mouser; Supplier Part Number 2: 579-TC4428VMF; Mounting Technology: Surface Mount; ComponentLink1Description: Manufacturer URL; ComponentLink1URL: http://www.microchip.com/; ComponentLink2Description: Datasheet; ComponentLink2URL: http://ww1.microchip.com/downloads/en/DeviceDoc/21422D.pdf; ComponentLink3Description: Package Specification; ComponentLink3URL: http://www.microchip.com/stellent/groups/techpub_sg/documents/packagingspec/en012702.pdf
footprint DFN-MF8 (SON, 8-Leads, Body 3x3mm, Pitch 0.65mm, Microchip Recommended)
part A pins: 2 INA (in), 7 ~{OUTA} (out)
part B pins: 4 INB (in), 5 OUTB (out)
part C pins: 1 NC, 3 GND (power), 6 VDD (power), 8 NC, 9 Thermal Pad

## TC4428VMF713
designator U?
1.5A Dual High-Speed Power MOSFET Driver, Complementary, Extended Temperature, Tape and Reel; Manufacturer: Microchip; PartNumber: TC4428VMF713; DatasheetVersion: revD, Jan-2006; PackageVersion: revBB, Aug-2009; PackageReference: DFN-MF8; PackageDescription: 8-Lead Plastic Dual Flat, No Lead Package (MF) - 3x3x0.9mm Body [DFN]; Supplier 1: Digi-Key; Supplier Part Number 1: TC4428VMF713-ND; Supplier 2: Mouser; Supplier Part Number 2: 579-TC4428VMF713; Mounting Technology: Surface Mount; ComponentLink1Description: Manufacturer URL; ComponentLink1URL: http://www.microchip.com/; ComponentLink2Description: Datasheet; ComponentLink2URL: http://ww1.microchip.com/downloads/en/DeviceDoc/21422D.pdf; ComponentLink3Description: Package Specification; ComponentLink3URL: http://www.microchip.com/stellent/groups/techpub_sg/documents/packagingspec/en012702.pdf
footprint DFN-MF8 (SON, 8-Leads, Body 3x3mm, Pitch 0.65mm, Microchip Recommended)
part A pins: 2 INA (in), 7 ~{OUTA} (out)
part B pins: 4 INB (in), 5 OUTB (out)
part C pins: 1 NC, 3 GND (power), 6 VDD (power), 8 NC, 9 Thermal Pad

## TC4428VOA
designator U?
1.5A Dual High-Speed Power MOSFET Driver, Complementary, Extended Temperature; Manufacturer: Microchip; PartNumber: TC4428VOA; DatasheetVersion: revD, Jan-2006; PackageVersion: revBB, Aug-2009; PackageReference: SOIC-OA8; PackageDescription: 8-Lead Plastic Small Outline (OA) - Narrow, 3.90mm Body [SOIC]; Supplier 1: Digi-Key; Supplier Part Number 1: TC4428VOA-ND; Supplier 2: Mouser; Supplier Part Number 2: 579-TC4428VOA; Mounting Technology: Surface Mount; Code_IPC: SOIC127P600-8; ComponentLink1Description: Manufacturer URL; ComponentLink1URL: http://www.microchip.com/; ComponentLink2Description: Datasheet; ComponentLink2URL: http://ww1.microchip.com/downloads/en/DeviceDoc/21422D.pdf; ComponentLink3Description: Package Specification; ComponentLink3URL: http://www.microchip.com/stellent/groups/techpub_sg/documents/packagingspec/en012702.pdf
footprint SOIC-OA8_N (SOIC, 8-Leads, Body 4.9x3.9mm, Pitch 1.27mm, IPC Medium Density)
footprint SOIC-OA8_L (SOIC, 8-Leads, Body 4.9x3.9mm, Pitch 1.27mm, IPC High Density)
footprint SOIC-OA8_M (SOIC, 8-Leads, Body 4.9x3.9mm, Pitch 1.27mm, IPC Low Density)
part A pins: 2 INA (in), 7 ~{OUTA} (out)
part B pins: 4 INB (in), 5 OUTB (out)
part C pins: 1 NC, 3 GND (power), 6 VDD (power), 8 NC

## TC4428VOA713
designator U?
1.5A Dual High-Speed Power MOSFET Driver, Complementary, Extended Temperature, Tape and Reel; Manufacturer: Microchip; PartNumber: TC4428VOA713; DatasheetVersion: revD, Jan-2006; PackageVersion: revBB, Aug-2009; PackageReference: SOIC-OA8; PackageDescription: 8-Lead Plastic Small Outline (OA) - Narrow, 3.90mm Body [SOIC]; Supplier 1: Digi-Key; Supplier Part Number 1: TC4428VOA713-ND; Supplier 2: Mouser; Supplier Part Number 2: 579-TC4428VOA713; Mounting Technology: Surface Mount; Code_IPC: SOIC127P600-8; ComponentLink1Description: Manufacturer URL; ComponentLink1URL: http://www.microchip.com/; ComponentLink2Description: Datasheet; ComponentLink2URL: http://ww1.microchip.com/downloads/en/DeviceDoc/21422D.pdf; ComponentLink3Description: Package Specification; ComponentLink3URL: http://www.microchip.com/stellent/groups/techpub_sg/documents/packagingspec/en012702.pdf
footprint SOIC-OA8_N (SOIC, 8-Leads, Body 4.9x3.9mm, Pitch 1.27mm, IPC Medium Density)
footprint SOIC-OA8_L (SOIC, 8-Leads, Body 4.9x3.9mm, Pitch 1.27mm, IPC High Density)
footprint SOIC-OA8_M (SOIC, 8-Leads, Body 4.9x3.9mm, Pitch 1.27mm, IPC Low Density)
part A pins: 2 INA (in), 7 ~{OUTA} (out)
part B pins: 4 INB (in), 5 OUTB (out)
part C pins: 1 NC, 3 GND (power), 6 VDD (power), 8 NC

## TC4428VUA
designator U?
1.5A Dual High-Speed Power MOSFET Driver, Complementary, Extended Temperature; Manufacturer: Microchip; PartNumber: TC4428VUA; DatasheetVersion: revD, Jan-2006; PackageVersion: revBB, Aug-2009; PackageReference: MSOP-UA8; PackageDescription: 8-Lead Plastic Micro Small Outline Package (UA) [MSOP]; Supplier 1: Digi-Key; Supplier Part Number 1: TC4428VUA-ND; Supplier 2: Mouser; Supplier Part Number 2: 579-TC4428VUA; Mounting Technology: Surface Mount; Code_JEDEC: MO-187-AA; ComponentLink1Description: Manufacturer URL; ComponentLink1URL: http://www.microchip.com/; ComponentLink2Description: Datasheet; ComponentLink2URL: http://ww1.microchip.com/downloads/en/DeviceDoc/21422D.pdf; ComponentLink3Description: Package Specification; ComponentLink3URL: http://www.microchip.com/stellent/groups/techpub_sg/documents/packagingspec/en012702.pdf
footprint MSOP-UA8_N (TSOP, 8-Leads, Body 3x3mm, Pitch 0.65mm, IPC Medium Density)
footprint MSOP-UA8_L (TSOP, 8-Leads, Body 3x3mm, Pitch 0.65mm, IPC High Density)
footprint MSOP-UA8_M (TSOP, 8-Leads, Body 3x3mm, Pitch 0.65mm, IPC Low Density)
part A pins: 2 INA (in), 7 ~{OUTA} (out)
part B pins: 4 INB (in), 5 OUTB (out)
part C pins: 1 NC, 3 GND (power), 6 VDD (power), 8 NC

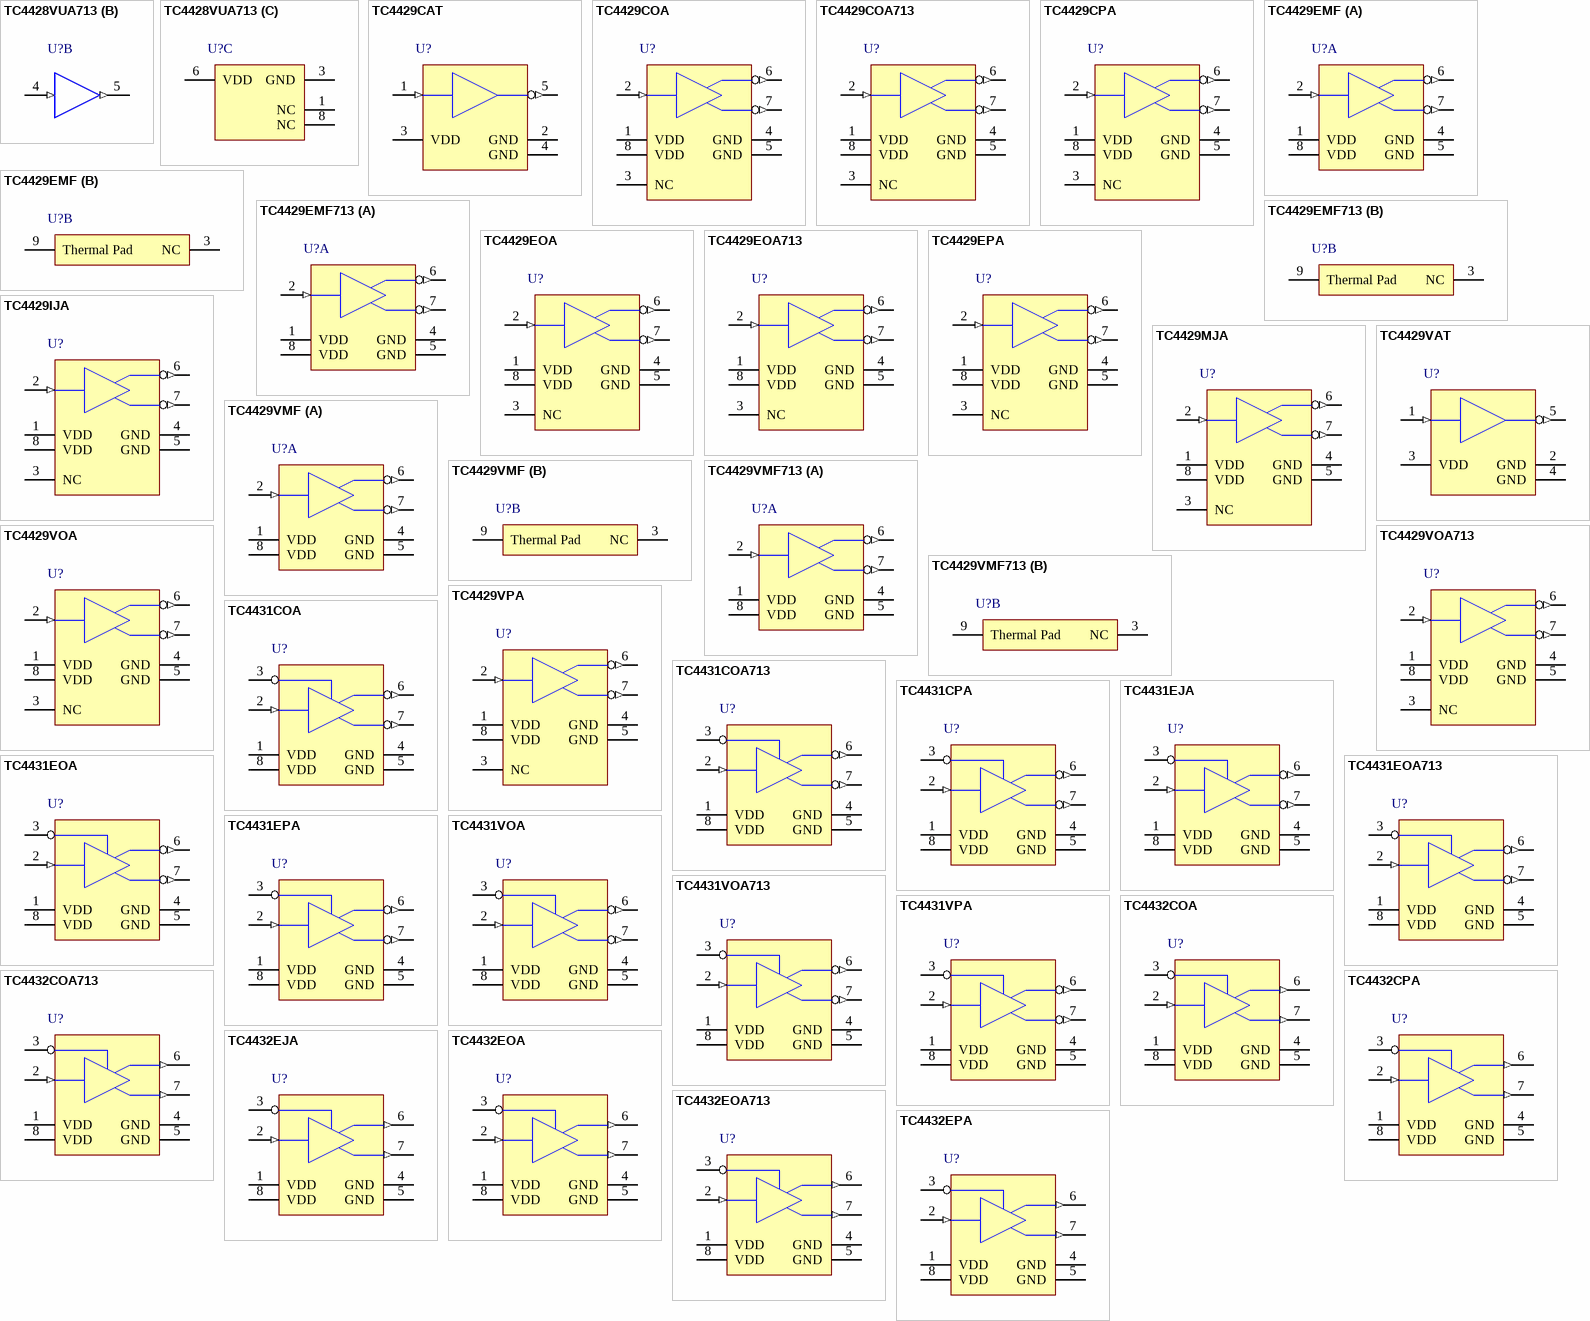
[diagram p23: symbols TC4428VUA713 to TC4432EPA]

## TC4428VUA713
designator U?
1.5A Dual High-Speed Power MOSFET Driver, Complementary, Extended Temperature, Tape and Reel; Manufacturer: Microchip; PartNumber: TC4428VUA713; DatasheetVersion: revD, Jan-2006; PackageVersion: revBB, Aug-2009; PackageReference: MSOP-UA8; PackageDescription: 8-Lead Plastic Micro Small Outline Package (UA) [MSOP]; Supplier 1: Digi-Key; Supplier Part Number 1: TC4428VUA713-ND; Supplier 2: Mouser; Supplier Part Number 2: 579-TC4428VUA713; Mounting Technology: Surface Mount; Code_JEDEC: MO-187-AA; ComponentLink1Description: Manufacturer URL; ComponentLink1URL: http://www.microchip.com/; ComponentLink2Description: Datasheet; ComponentLink2URL: http://ww1.microchip.com/downloads/en/DeviceDoc/21422D.pdf; ComponentLink3Description: Package Specification; ComponentLink3URL: http://www.microchip.com/stellent/groups/techpub_sg/documents/packagingspec/en012702.pdf
footprint MSOP-UA8_N (TSOP, 8-Leads, Body 3x3mm, Pitch 0.65mm, IPC Medium Density)
footprint MSOP-UA8_L (TSOP, 8-Leads, Body 3x3mm, Pitch 0.65mm, IPC High Density)
footprint MSOP-UA8_M (TSOP, 8-Leads, Body 3x3mm, Pitch 0.65mm, IPC Low Density)
part A pins: 2 INA (in), 7 ~{OUTA} (out)
part B pins: 4 INB (in), 5 OUTB (out)
part C pins: 1 NC, 3 GND (power), 6 VDD (power), 8 NC